# Altium schematic symbol library 470531000.SchLib: 1 symbol
Pins are listed as number, name and electrical type; pins without a type are passive.

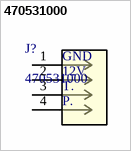
[diagram p0: symbol 470531000]

## 470531000
designator J?
KK 254 Vertical Header, with Friction Lock, 4 Circuits, 3.50mm PC Tail Length, Bag; Manufacturer_Name: Molex Connector Corporation; Copyright: Copyright (C) 2025 Ultra Librarian. All rights reserved.; Manufacturer_Part_Number: 470531000; RefDes: RefDes; Type: Type
footprint CONN_SD-47053-001_H10p00_MOL
pins: 1, 2, 3, 4
text: GND; 12V; T.; P.